# Altium schematic symbol library Isidro_Library.SchLib: 25 symbols
Pins are listed as number, name and electrical type; pins without a type are passive.

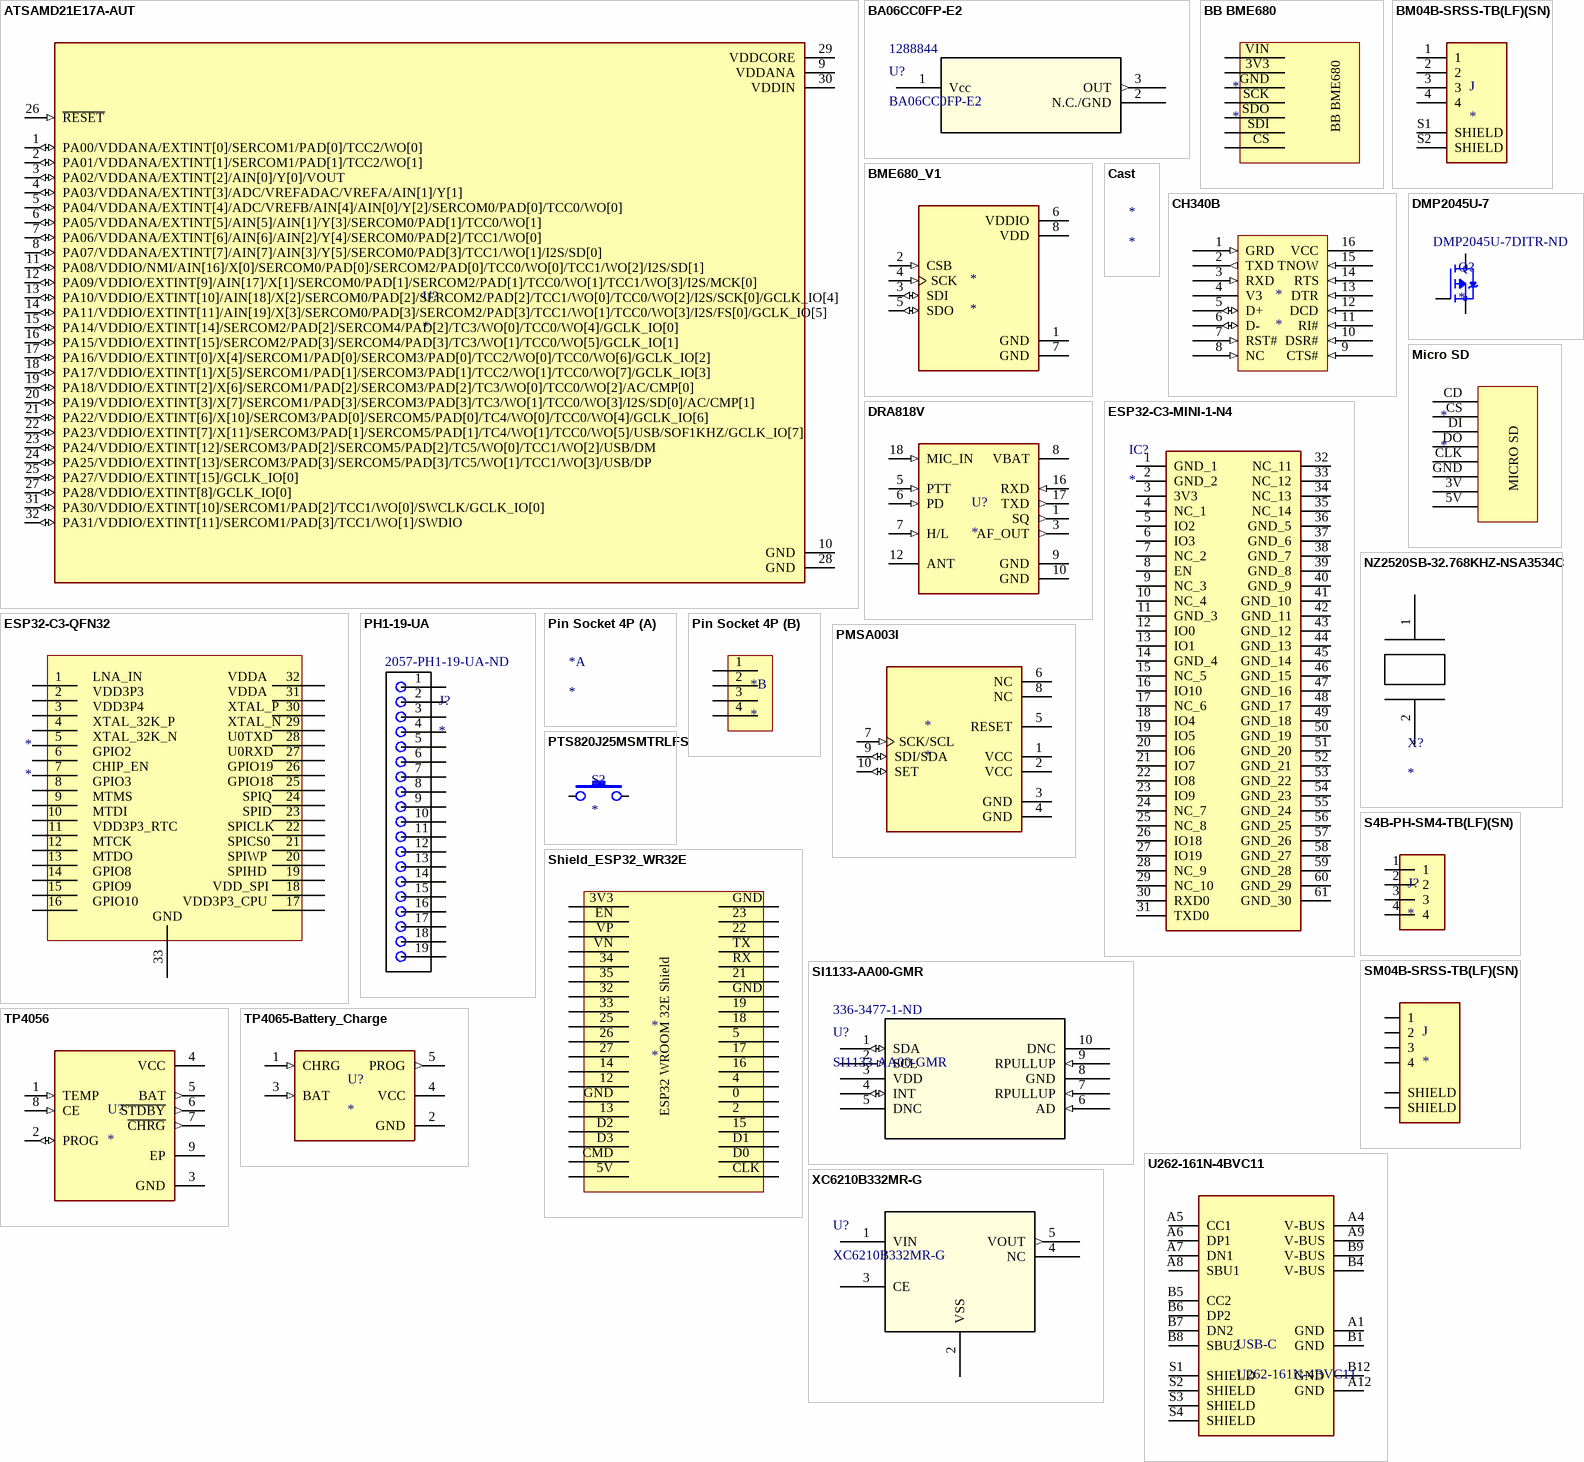
[diagram p0: symbols ATSAMD21E17A-AUT to XC6210B332MR-G]

## ATSAMD21E17A-AUT
designator U?
IC MCU 32BIT 128KB FLASH 32TQFP; MF: Microchip Technology; MP: ATSAMD21E17A-AUT; Arrow_Electronics-Purchase-URL: https://snapeda.com/shop?store=Arrow+Electronics&id=4816889; DigiKey-Purchase-URL: https://snapeda.com/shop?store=DigiKey&id=4816889; Package: None; Mouser-Purchase-URL: https://snapeda.com/shop?store=Mouser&id=4816889; Value: *; SnapEDA_Link: https://www.snapeda.com/parts/ATSAMD21E17A-AUT/Atmel/view-part/4816889/?ref=snap
footprint QFP80P900X900X120-32N
pins: 1 PA00/VDDANA/EXTINT[0]/SERCOM1/PAD[0]/TCC2/WO[0] (io), 2 PA01/VDDANA/EXTINT[1]/SERCOM1/PAD[1]/TCC2/WO[1] (io), 3 PA02/VDDANA/EXTINT[2]/AIN[0]/Y[0]/VOUT (io), 4 PA03/VDDANA/EXTINT[3]/ADC/VREFADAC/VREFA/AIN[1]/Y[1] (io), 5 PA04/VDDANA/EXTINT[4]/ADC/VREFB/AIN[4]/AIN[0]/Y[2]/SERCOM0/PAD[0]/TCC0/WO[0] (io), 6 PA05/VDDANA/EXTINT[5]/AIN[5]/AIN[1]/Y[3]/SERCOM0/PAD[1]/TCC0/WO[1] (io), 7 PA06/VDDANA/EXTINT[6]/AIN[6]/AIN[2]/Y[4]/SERCOM0/PAD[2]/TCC1/WO[0] (io), 8 PA07/VDDANA/EXTINT[7]/AIN[7]/AIN[3]/Y[5]/SERCOM0/PAD[3]/TCC1/WO[1]/I2S/SD[0] (io), 9 VDDANA (power), 10 GND (power), 11 PA08/VDDIO/NMI/AIN[16]/X[0]/SERCOM0/PAD[0]/SERCOM2/PAD[0]/TCC0/WO[0]/TCC1/WO[2]/I2S/SD[1] (io), 12 PA09/VDDIO/EXTINT[9]/AIN[17]/X[1]/SERCOM0/PAD[1]/SERCOM2/PAD[1]/TCC0/WO[1]/TCC1/WO[3]/I2S/MCK[0] (io), 13 PA10/VDDIO/EXTINT[10]/AIN[18]/X[2]/SERCOM0/PAD[2]/SERCOM2/PAD[2]/TCC1/WO[0]/TCC0/WO[2]/I2S/SCK[0]/GCLK_IO[4] (io), 14 PA11/VDDIO/EXTINT[11]/AIN[19]/X[3]/SERCOM0/PAD[3]/SERCOM2/PAD[3]/TCC1/WO[1]/TCC0/WO[3]/I2S/FS[0]/GCLK_IO[5] (io), 15 PA14/VDDIO/EXTINT[14]/SERCOM2/PAD[2]/SERCOM4/PAD[2]/TC3/WO[0]/TCC0/WO[4]/GCLK_IO[0] (io), 16 PA15/VDDIO/EXTINT[15]/SERCOM2/PAD[3]/SERCOM4/PAD[3]/TC3/WO[1]/TCC0/WO[5]/GCLK_IO[1] (io), 17 PA16/VDDIO/EXTINT[0]/X[4]/SERCOM1/PAD[0]/SERCOM3/PAD[0]/TCC2/WO[0]/TCC0/WO[6]/GCLK_IO[2] (io), 18 PA17/VDDIO/EXTINT[1]/X[5]/SERCOM1/PAD[1]/SERCOM3/PAD[1]/TCC2/WO[1]/TCC0/WO[7]/GCLK_IO[3] (io), 19 PA18/VDDIO/EXTINT[2]/X[6]/SERCOM1/PAD[2]/SERCOM3/PAD[2]/TC3/WO[0]/TCC0/WO[2]/AC/CMP[0] (io), 20 PA19/VDDIO/EXTINT[3]/X[7]/SERCOM1/PAD[3]/SERCOM3/PAD[3]/TC3/WO[1]/TCC0/WO[3]/I2S/SD[0]/AC/CMP[1] (io), 21 PA22/VDDIO/EXTINT[6]/X[10]/SERCOM3/PAD[0]/SERCOM5/PAD[0]/TC4/WO[0]/TCC0/WO[4]/GCLK_IO[6] (io), 22 PA23/VDDIO/EXTINT[7]/X[11]/SERCOM3/PAD[1]/SERCOM5/PAD[1]/TC4/WO[1]/TCC0/WO[5]/USB/SOF1KHZ/GCLK_IO[7] (io), 23 PA24/VDDIO/EXTINT[12]/SERCOM3/PAD[2]/SERCOM5/PAD[2]/TC5/WO[0]/TCC1/WO[2]/USB/DM (io), 24 PA25/VDDIO/EXTINT[13]/SERCOM3/PAD[3]/SERCOM5/PAD[3]/TC5/WO[1]/TCC1/WO[3]/USB/DP (io), 25 PA27/VDDIO/EXTINT[15]/GCLK_IO[0] (io), 26 ~{RESET} (in), 27 PA28/VDDIO/EXTINT[8]/GCLK_IO[0] (io), 28 GND (power), 29 VDDCORE (power), 30 VDDIN (power), 31 PA30/VDDIO/EXTINT[10]/SERCOM1/PAD[2]/TCC1/WO[0]/SWCLK/GCLK_IO[0] (io), 32 PA31/VDDIO/EXTINT[11]/SERCOM1/PAD[3]/TCC1/WO[1]/SWDIO (io)

## BA06CC0FP-E2
designator U?  Supplier Part Number 1: 1288844
Linear Voltage Regulator IC Positive Fixed 1 Output 1A TO-252; Mfr_Name: ROHM Semiconductor; Copyright: Copyright (C) 2022 Ultra Librarian. All rights reserved.; Manufacturer_Part_Number: BA06CC0FP-E2; Digi-Key_Part_Number_1: BA06CC0FP-E2TR-ND; Digi-Key_Part_Number_2: BA06CC0FP-E2CT-ND; Digi-Key_Part_Number_3: BA06CC0FP-E2DKR-ND; RefDes: RefDes; Type: DEV; Supplier 1: RSComponents
footprint TO252-3_ROM-M
pins: 1 Vcc (power), 2 N.C./GND, 3 OUT (out)

## BB BME680
designator *
footprint BB_BME680
pins: 3V3, CS, GND, SCK, SDI, SDO, VIN

## BM04B-SRSS-TB(LF)(SN)
designator J
Connector Header Surface Mount 4 position 0.039 _1.00mm_; MF: JST Sales; MP: BM04B-SRSS-TB_LF__SN_; Price: None; Availability: Unavailable; Package: None; SnapEDA_Link: https://www.snapeda.com/parts/BM04B-SRSS-TB%28LF%29%28SN%29/JST%20Sales%20America%20Inc./view-part/91778/?ref=snap; Value: *
footprint CONN_BM04B-SRSS-TB(LF)(SN)
pins: 1, 2, 3, 4, S1 SHIELD, S2 SHIELD

## BME680_V1
designator *
footprint BME680
pins: 1 GND (power), 2 CSB (in), 3 SDI (io), 4 SCK (in), 5 SDO (io), 6 VDDIO (power), 7 GND (power), 8 VDD (power)

## Cast
designator *
footprint castellated hole

## CH340B
designator *
- USB 2.0 Transceiver 2Mbps SOP-16_150mil USB ICs ROHS; ComponentLink1Description: Datasheet; ComponentLink1URL: https://www.mpja.com/download/35227cpdata.pdf
footprint CH340B (- USB 2.0 Transceiver 2Mbps SOP-16_150mil USB ICs ROHS)
pins: 1 GRD (in), 2 TXD (out), 3 RXD (in), 4 V3 (power), 5 D+ (io), 6 D- (io), 7 RST# (in), 8 NC (in), 9 CTS# (in), 10 DSR# (in), 11 RI# (in), 12 DCD (in), 13 DTR (in), 14 RTS (in), 15 TNOW (in), 16 VCC (power)

## DMP2045U-7
designator Q?  Supplier Part Number 1: DMP2045U-7DITR-ND
Canal P Montaje en superficie 20 V 4.3 A (Ta) 800mW (Ta) SOT-23-3; Supplier 1: Digi-Key
footprint DMP2045U-7 (Canal P Montaje en superficie 20 V 4.3 A (Ta) 800mW (Ta) SOT-23-3)
pins: P$1 S, P$2 S, P$3 S, P$4 G, P$5 D, P$6 D, P$7 D, P$8 D

## DRA818V
designator U?
VHF Band Voice Transceiver Module; MF: DORJI; MP: DRA818V; Price: None; Check_prices: https://www.snapeda.com/parts/DRA818V/DORJI/view-part/2654524/?ref=eda; SnapEDA_Link: https://www.snapeda.com/parts/DRA818V/DORJI/view-part/2654524/?ref=snap; Package: Package; Availability: Unavailable; Value: *
footprint DORJI_DRA818V
pins: 1 SQ (out), 3 AF_OUT (out), 5 PTT (in), 6 PD (in), 7 H/L (in), 8 VBAT (power), 9 GND (power), 10 GND (power), 12 ANT, 16 RXD (in), 17 TXD (out), 18 MIC_IN (in)

## ESP32-C3-MINI-1-N4
designator IC?
Integrated Circuit; Manufacturer_Name: Espressif Systems; Manufacturer_Part_Number: ESP32-C3-MINI-1-N4; Datasheet Link: https://www.mouser.com/datasheet/2/891/Espressif_ESP32_C3_MINI_1_Datasheet-2006822.pdf; Height: 2.55mm; Mouser Part Number: 356-ESP32-C3-MINI1N4; Mouser Price/Stock: https://www.mouser.co.uk/ProductDetail/Espressif-Systems/ESP32-C3-MINI-1-N4?qs=stqOd1AaK7%252B%2FpH3qqyGehA%3D%3D
footprint ESP32C3MINI1N4
pins: 1 GND_1, 2 GND_2, 3 3V3, 4 NC_1, 5 IO2, 6 IO3, 7 NC_2, 8 EN, 9 NC_3, 10 NC_4, 11 GND_3, 12 IO0, 13 IO1, 14 GND_4, 15 NC_5, 16 IO10, 17 NC_6, 18 IO4, 19 IO5, 20 IO6, 21 IO7, 22 IO8, 23 IO9, 24 NC_7, 25 NC_8, 26 IO18, 27 IO19, 28 NC_9, 29 NC_10, 30 RXD0, 31 TXD0, 32 NC_11, 33 NC_12, 34 NC_13, 35 NC_14, 36 GND_5, 37 GND_6, 38 GND_7, 39 GND_8, 40 GND_9, 41 GND_10, 42 GND_11, 43 GND_12, 44 GND_13, 45 GND_14, 46 GND_15, 47 GND_16, 48 GND_17, 49 GND_18, 50 GND_19, 51 GND_20, 52 GND_21, 53 GND_22, 54 GND_23, 55 GND_24, 56 GND_25, 57 GND_26, 58 GND_27, 59 GND_28, 60 GND_29, 61 GND_30

## ESP32-C3-QFN32
designator *
footprint ESP32-C3
pins: 1 LNA_IN, 2 LNA_IN, 3, 4, 5, 6, 7, 8, 9, 10, 11, 12, 13, 14, 15, 16, 17, 18, 19, 20, 21, 22, 23, 24, 25, 26, 27, 28, 29, 30, 31, 32, 33
text: VDDA; VDD3P3; VDD3P4; XTAL_P; XTAL_32K_P; XTAL_N; XTAL_32K_N; U0TXD; GPIO2; U0RXD; CHIP_EN; GPIO19; GPIO3; GPIO18; MTMS; SPIQ; MTDI; SPID; VDD3P3_RTC; SPICLK; MTCK; SPICS0; MTDO; SPIWP; GPIO8; SPIHD; GPIO9; VDD_SPI; GPIO10; VDD3P3_CPU; GND

## Micro SD
designator *
footprint Micro SD
pins: 3V, 5V, CD, CLK, CS, DI, DO, GND
text: MICRO SD

## NZ2520SB-32.768KHZ-NSA3534C
designator X?
CRYSTAL 32.7680KHZ 9PF SMD
footprint NZ2520SB-32.768KHZ-NSA3534C (CRYSTAL 32.7680KHZ 9PF SMD)
pins: 1, 2

## PH1-19-UA
designator J?  Supplier Part Number 1: 2057-PH1-19-UA-ND
Connector Header Through Hole 19 position 0.100" (2.54mm); Supplier 1: Digi-Key
footprint PH1-19-UA (Connector Header Through Hole 19 position 0.100" (2.54mm))
footprint PH1-19-UA - Socket (Connector Header Through Hole 19 position 0.100" (2.54mm))
pins: 1, 2, 3, 4, 5, 6, 7, 8, 9, 10, 11, 12, 13, 14, 15, 16, 17, 18, 19

## Pin Socket 4P
designator *
Female Header 4 1 Straight，180degrees 2.54mm Through Hole,P=2.54mm Pin Header & Female Header RoHS
footprint Pin Socket 4P
part B pins: 1, 2, 3, 4

## PMSA003I
designator *
footprint PMSA003I (Sensor de particulas PM2.5/10)
pins: 1 VCC (power), 2 VCC (power), 3 GND (power), 4 GND (power), 5 RESET (power), 6 NC (power), 7 SCK/SCL (in), 8 NC (power), 9 SDI/SDA (io), 10 SET (io)

## PTS820J25MSMTRLFS
designator S?
footprint SMT_SW_PTS_820
pins: 1, 2

## S4B-PH-SM4-TB(LF)(SN)
designator J?
Connector Header Surface Mount, Right Angle 4 position 0.079" (2.00mm); Supplier 1: RSComponents
footprint S4B-PH-SM4-TB(LF)(SN) (Connector Header Surface Mount, Right Angle 4 position 0.079" (2.00mm))
pins: 1, 2, 3, 4

## Shield_ESP32_WR32E
designator *
footprint Shield_ESP32_WR32E (Shield ESP32 WROOM 32E)
pins: 0, 2, 3V3, 4, 5, 5V, 12, 13, 14, 15, 16, 17, 18, 19, 21, 22, 23, 25, 26, 27, 32, 33, 34, 35, CLK, CMD, D0, D1, D2, D3, EN, GND, GND, GND, RX, TX, VN, VP
text: ESP32 WROOM 32E Shield

## SI1133-AA00-GMR
designator U?  Supplier Part Number 1: 336-3477-1-ND
Sensores ópticos Ambiente, ultravioleta (UV) 625nm, 525nm, 460nm I²C 10-WFQFN; Mfr_Name: Silicon Labs; Copyright: Copyright (C) 2022 Ultra Librarian. All rights reserved.; Manufacturer_Part_Number: SI1133-AA00-GMR; Digi-Key_Part_Number_1: 336-3477-1-ND; Digi-Key_Part_Number_2: 336-3477-6-ND; Digi-Key_Part_Number_3: 336-3477-2-ND; RefDes: RefDes; Type: DEV; Supplier 1: Digi-Key
footprint 10QFN_2X2_SIL-M
pins: 1 SDA (io), 2 SCL (in), 3 VDD (power), 4 INT (io), 5 DNC, 6 AD (in), 7 RPULLUP (in), 8 GND, 9 RPULLUP (in), 10 DNC

## SM04B-SRSS-TB(LF)(SN)
designator J
Connector Header Surface Mount, Right Angle 4 position 0.039 _1.00mm_; MF: JST Sales; MP: SM04B-SRSS-TB_LF__SN_; Price: None; SnapEDA_Link: https://www.snapeda.com/parts/SM04B-SRSS-TB%28LF%29%28SN%29/JST%20Sales%20America%20Inc./view-part/557466/?ref=snap; Value: *; Availability: Unavailable; Package: None
footprint JST_SM04B-SRSS-TB(LF)(SN)
pins: 1, 2, 3, 4, S1 SHIELD, S2 SHIELD

## TP4056
designator U?
Complete single cell Li-Ion battery with a constant current / constant voltage linear charger; MP: TP4056; Package: None; Value: *; Price: None; Availability: Unavailable
footprint SOP127P600X175-9N
pins: 1 TEMP (in), 2 PROG (io), 3 GND (power), 4 VCC (power), 5 BAT (out), 6 ~{STDBY} (out), 7 ~{CHRG} (out), 8 CE (in), 9 EP

## TP4065-Battery_Charge
designator U?
80MA 3.3V ULTRA LOW DROPOUT VOLTAGE REGULATOR WITH ENABLE; MF: Taiwan Semiconductor Corporation; MP: TS5213CX533 RFG; Package: SOT-25-5 Taiwan Semiconductor; Check_prices: https://www.snapeda.com/parts/TS5213CX533%20RFG/Taiwan+Semiconductor+Corporation/view-part/?ref=eda; Value: *; Price: None; Availability: In Stock; SnapEDA_Link: https://www.snapeda.com/parts/TS5213CX533%20RFG/Taiwan+Semiconductor+Corporation/view-part/?ref=snap; ComponentLink1Description: Datasheet; ComponentLink1URL: https://datasheet.lcsc.com/lcsc/1811071522_TOPPOWER-Nanjing-Extension-Microelectronics-TP4065-4-2V-SOT25-R_C113540.pdf
footprint TP4065
pins: 1 CHRG (in), 2 GND (power), 3 BAT (in), 4 VCC, 5 PROG (out)

## U262-161N-4BVC11
designator USB-C
USB - Type C Female 16 SMT USB Connectors RoHS; ComponentLink1Description: datasheet; ComponentLink1URL: https://datasheet.lcsc.com/szlcsc/2002271811_XKB-Connectivity-U262-161N-4BVC11_C319148.pdf; ComponentLink2Description: LCSC Link; ComponentLink2URL: https://lcsc.com/product-detail/USB-Connectors_XKB-Connectivity-U262-161N-4BVC11_C319148.html
footprint U262-161N-4BVC11 (USB-C)
pins: A1 GND (power), A4 V-BUS (power), A5 CC1 (power), A6 DP1 (power), A7 DN1 (power), A8 SBU1 (power), A9 V-BUS (power), A12 GND (power), B1 GND (power), B4 V-BUS (power), B5 CC2 (power), B6 DP2 (power), B7 DN2 (power), B8 SBU2 (power), B9 V-BUS (power), B12 GND (power), S1 SHIELD, S2 SHIELD, S3 SHIELD, S4 SHIELD

## XC6210B332MR-G
designator U?
No Description Available; Mfr_Name: Torex Semiconductor; Copyright: Copyright (C) 2022 Ultra Librarian. All rights reserved.; Manufacturer_Part_Number: XC6210B332MR-G; RefDes: RefDes; Type: DEV
footprint SOT-25_TOR-M
pins: 1 VIN (power), 2 VSS, 3 CE, 4 NC, 5 VOUT (out)